# Altium footprint library con-wf.PcbLib: 46 footprints (part 3 of 3)
Each footprint in its own frame and in the unit in brackets; x right, y up, seen from the top. Pads: shape width x height; smd on the part's side, far side on the other; paste and mask are expansions set on the pad; w line width, h text height; cw(c..) or ccw(c..) is an arc to the next point about the centre after c.
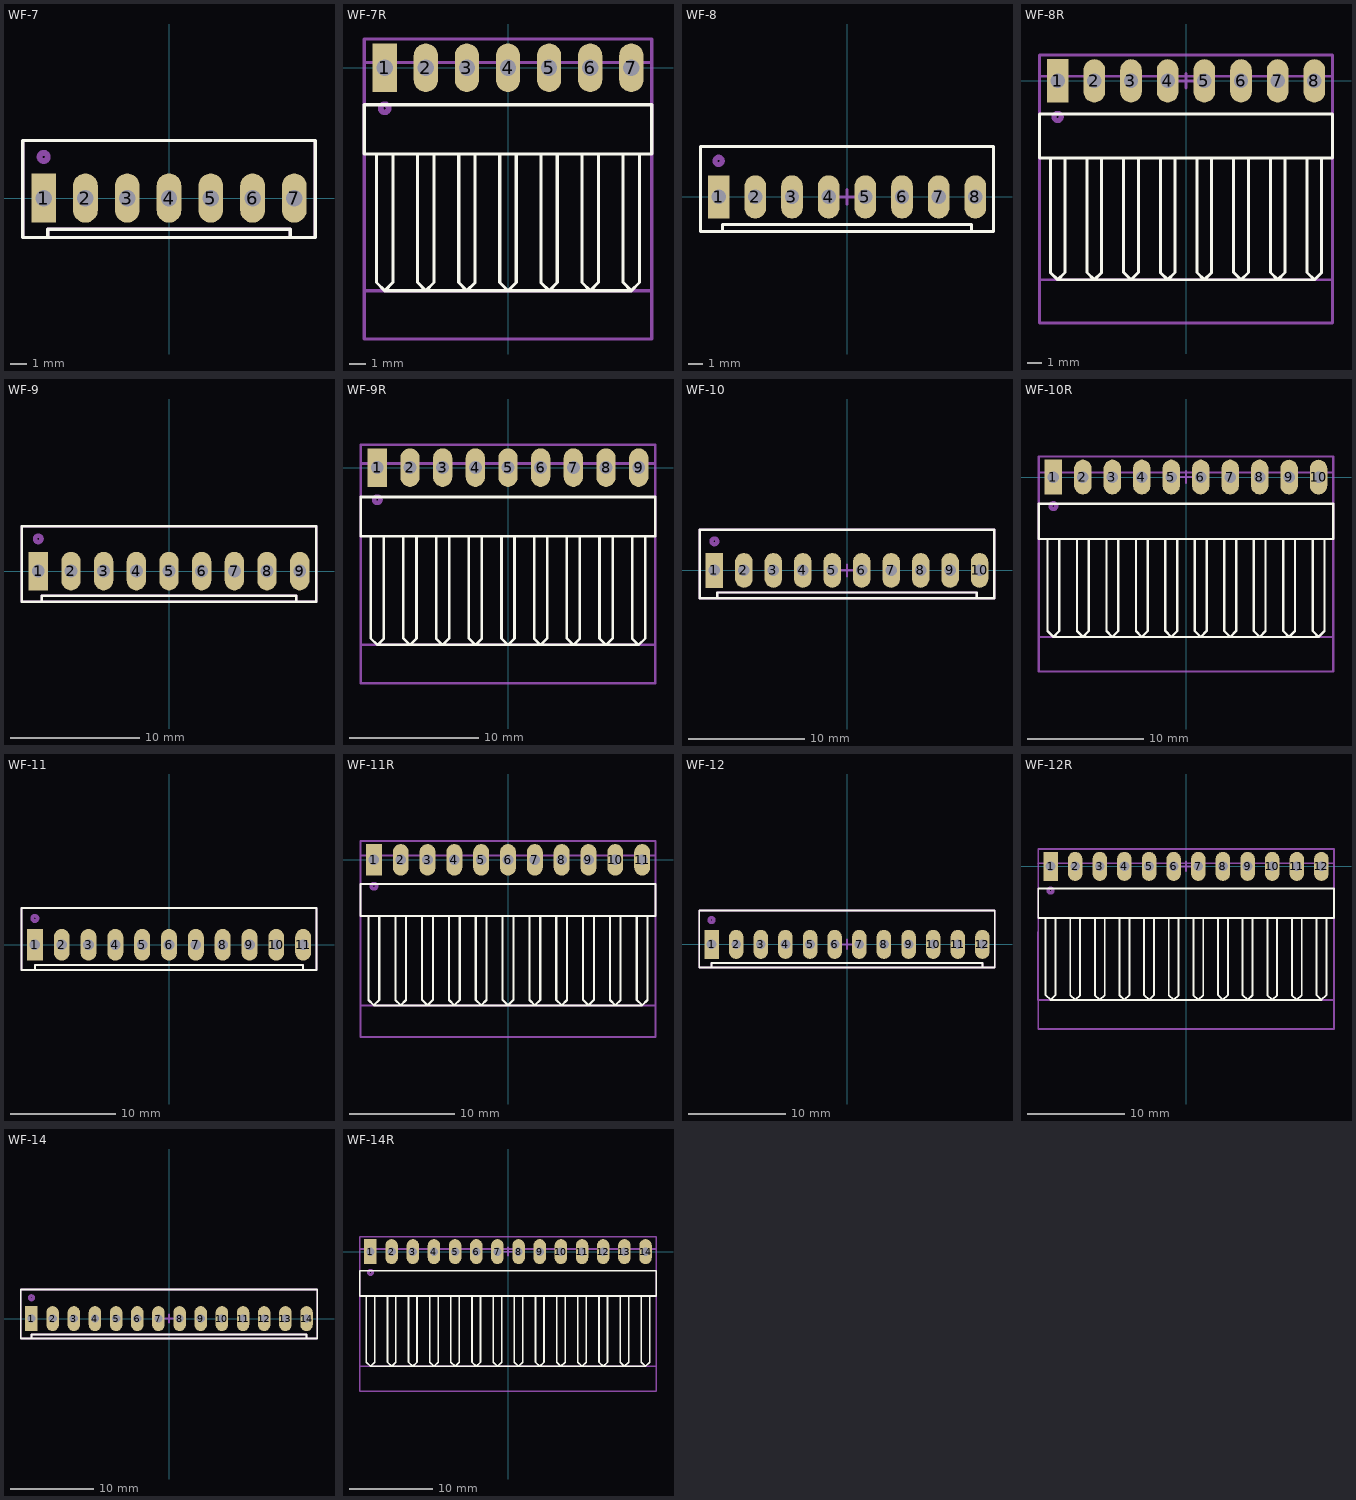
[diagram p2: the footprints below, top view; thin cyan lines are the x and y axes]

## WF-7 [mm] "DS1070-7MV CONNFLY"
height 11.6
pads (7):
  rect 1.5x3 hole 1: 1(-7.62,0)
  oval 1.5x3 hole 1: 2(-5.08,0) 3(-2.54,0) 4(0,0) 5(2.54,0) 6(5.08,0) 7(7.62,0)
Top Overlay:
  lines w0.2: -7.366,-2.4 -7.366,-1.905 7.366,-1.905 7.366,-2.4 ; -8.89,-2.4 8.89,-2.4 8.89,3.5 -8.89,3.5 -8.89,-2.4
Top Assembly (Mech3):
  circle w0.35: c-7.62,2.5 r0.25
  rectangle: -8.15,-0.5 -7.119,0.5
  rectangle: -5.61,-0.5 -4.579,0.5
  rectangle: -3.07,-0.5 -2.039,0.5
  rectangle: -0.53,-0.5 0.501,0.5
  rectangle: 2.01,-0.5 3.041,0.5
  rectangle: 4.55,-0.5 5.581,0.5
  rectangle: 7.09,-0.5 8.121,0.5
  lines w0.2: -7.366,-2.4 -7.366,-1.905 7.366,-1.905 7.366,-2.4 ; -8.89,-2.4 8.89,-2.4 8.89,3.5 -8.89,3.5 -8.89,-2.4
Top Courtyard:
  lines w0.2: -0.508,0 0.508,0 ; 0,-0.508 0,0.508 ; -8.89,-2.4 -8.89,3.5 8.89,3.5 8.89,-2.4 -8.89,-2.4
3D body "DS1070-7 (WF-7 CONNFLY).stp": height 11.4, standoff -3.3, extent -8.89,-2.4 8.89,3.5

## WF-7R [mm] "DS1070-7MR CONNFLY"
height 5.8
pads (7):
  rect 1.5x3 hole 1: 1(-7.62,0)
  oval 1.5x3 hole 1: 2(-5.08,0) 3(-2.54,0) 4(0,0) 5(2.54,0) 6(5.08,0) 7(7.62,0)
Top Overlay:
  lines w0.2: -8.128,-5.334 -8.128,-13.272 -7.62,-13.78 ; -7.112,-5.334 -7.112,-13.272 -7.62,-13.78 ; -5.588,-5.334 -5.588,-13.272 -5.08,-13.78 ; -4.572,-5.334 -4.572,-13.272 -5.08,-13.78 ; -3.048,-5.334 -3.048,-13.272 -2.54,-13.78 ; -2.032,-5.334 -2.032,-13.272 -2.54,-13.78 ; -0.508,-5.334 -0.508,-13.272 0,-13.78 ; 0.508,-5.334 0.508,-13.272 0,-13.78 ; 2.032,-5.334 2.032,-13.272 2.54,-13.78 ; 3.048,-5.334 3.048,-13.272 2.54,-13.78 ; 4.572,-5.334 4.572,-13.272 5.08,-13.78 ; 5.588,-5.334 5.588,-13.272 5.08,-13.78 ; 7.112,-5.334 7.112,-13.272 7.62,-13.78 ; 8.128,-5.334 8.128,-13.272 7.62,-13.78 ; -7.62,-13.78 -5.08,-13.78 ; -5.08,-13.78 -2.54,-13.78 ; -2.54,-13.78 0,-13.78 ; 0,-13.78 2.54,-13.78 ; 2.54,-13.78 5.08,-13.78 ; 5.08,-13.78 7.62,-13.78 ; -8.89,-5.334 -8.89,-2.286 8.89,-2.286 8.89,-5.334 -8.89,-5.334
Top Assembly (Mech3):
  circle w0.35: c-7.62,-2.5 r0.25
  lines w0.2: -8.89,-13.78 8.89,-13.78 8.89,0.32 -8.89,0.32 -8.89,-13.78
Top Courtyard:
  lines w0.2: -0.508,0 0.508,0 ; 0,-0.508 0,0.508 ; -8.89,-16.764 -8.89,1.778 8.89,1.778 8.89,-16.764 -8.89,-16.764
3D body "DS1070-7MR (WF-7RA CONNFLY).stp": height 5.9, standoff -3.4, extent -8.89,-13.78 8.89,0.32

## WF-8 [mm] "DS1070-8MV CONNFLY"
height 11.6
pads (8):
  rect 1.5x3 hole 1: 1(-8.89,0)
  oval 1.5x3 hole 1: 2(-6.35,0) 3(-3.81,0) 4(-1.27,0) 5(1.27,0) 6(3.81,0) 7(6.35,0) 8(8.89,0)
Top Overlay:
  lines w0.2: -8.636,-2.4 -8.636,-1.905 8.636,-1.905 8.636,-2.4 ; -10.16,-2.4 10.16,-2.4 10.16,3.5 -10.16,3.5 -10.16,-2.4
Top Assembly (Mech3):
  circle w0.35: c-8.89,2.5 r0.25
  rectangle: -9.42,-0.5 -8.389,0.5
  rectangle: -6.88,-0.5 -5.849,0.5
  rectangle: -4.34,-0.5 -3.309,0.5
  rectangle: -1.8,-0.5 -0.769,0.5
  rectangle: 0.74,-0.5 1.771,0.5
  rectangle: 3.28,-0.5 4.311,0.5
  rectangle: 5.82,-0.5 6.851,0.5
  rectangle: 8.36,-0.5 9.391,0.5
  lines w0.2: -8.636,-2.4 -8.636,-1.905 8.636,-1.905 8.636,-2.4 ; -10.16,-2.4 10.16,-2.4 10.16,3.5 -10.16,3.5 -10.16,-2.4
Top Courtyard:
  lines w0.2: -0.508,0 0.508,0 ; 0,-0.508 0,0.508 ; -10.16,-2.4 -10.16,3.5 10.16,3.5 10.16,-2.4 -10.16,-2.4
3D body "DS1070-8 (WF-8 CONNFLY).stp": height 11.4, standoff -3.3, extent -10.16,-2.4 10.16,3.5

## WF-8R [mm] "DS1070-8MR CONNFLY"
height 5.8
pads (8):
  rect 1.5x3 hole 1: 1(-8.89,0)
  oval 1.5x3 hole 1: 2(-6.35,0) 3(-3.81,0) 4(-1.27,0) 5(1.27,0) 6(3.81,0) 7(6.35,0) 8(8.889,-0.001)
Top Overlay:
  lines w0.2: -9.398,-5.334 -9.398,-13.272 -8.89,-13.78 ; -8.382,-5.334 -8.382,-13.272 -8.89,-13.78 ; -6.858,-5.334 -6.858,-13.272 -6.35,-13.78 ; -5.842,-5.334 -5.842,-13.272 -6.35,-13.78 ; -4.318,-5.334 -4.318,-13.272 -3.81,-13.78 ; -3.302,-5.334 -3.302,-13.272 -3.81,-13.78 ; -1.778,-5.334 -1.778,-13.272 -1.27,-13.78 ; -0.762,-5.334 -0.762,-13.272 -1.27,-13.78 ; 0.762,-5.334 0.762,-13.272 1.27,-13.78 ; 1.778,-5.334 1.778,-13.272 1.27,-13.78 ; 3.302,-5.334 3.302,-13.272 3.81,-13.78 ; 4.318,-5.334 4.318,-13.272 3.81,-13.78 ; 5.842,-5.334 5.842,-13.272 6.35,-13.78 ; 6.858,-5.334 6.858,-13.272 6.35,-13.78 ; 8.382,-5.334 8.382,-13.272 8.89,-13.78 ; 9.398,-5.334 9.398,-13.272 8.89,-13.78 ; -8.89,-13.78 -6.35,-13.78 ; -6.35,-13.78 -3.81,-13.78 ; -3.81,-13.78 -1.27,-13.78 ; -1.27,-13.78 1.27,-13.78 ; 1.27,-13.78 3.81,-13.78 ; 3.81,-13.78 6.35,-13.78 ; 6.35,-13.78 8.89,-13.78 ; -10.16,-5.334 10.16,-5.334 10.16,-2.286 -10.16,-2.286 -10.16,-5.334
Top Assembly (Mech3):
  circle w0.35: c-8.89,-2.501 r0.25
  lines w0.2: -10.161,0.319 10.159,0.319 10.159,-13.781 -10.161,-13.781 -10.16,0.319
Top Courtyard:
  lines w0.2: -0.508,0 0.508,0 ; 0,-0.508 0,0.508 ; -10.16,-16.764 10.16,-16.764 10.16,1.778 -10.16,1.778 -10.16,-16.764
3D body "DS1070-8MR (WF-8RA CONNFLY).stp": height 5.9, standoff -3.4, extent -10.161,-13.781 10.159,0.319

## WF-9 [mm] "DS1070-9MV CONNFLY"
height 11.6
pads (9):
  rect 1.5x3 hole 1: 1(-10.16,0)
  oval 1.5x3 hole 1: 2(-7.62,0) 3(-5.08,0) 4(-2.54,0) 5(0,0) 6(2.54,0) 7(5.08,0) 8(7.62,0) 9(10.16,0)
Top Overlay:
  lines w0.2: -9.906,-2.4 -9.906,-1.905 9.906,-1.905 9.906,-2.4 ; -11.43,-2.4 -11.43,3.5 11.43,3.5 11.43,-2.4 -11.43,-2.4
Top Assembly (Mech3):
  circle w0.35: c-10.16,2.5 r0.25
  rectangle: -10.69,-0.5 -9.659,0.5
  rectangle: -8.15,-0.5 -7.119,0.5
  rectangle: -5.61,-0.5 -4.579,0.5
  rectangle: -3.07,-0.5 -2.039,0.5
  rectangle: -0.53,-0.5 0.501,0.5
  rectangle: 2.01,-0.5 3.041,0.5
  rectangle: 4.55,-0.5 5.581,0.5
  rectangle: 7.09,-0.5 8.121,0.5
  rectangle: 9.63,-0.5 10.661,0.5
  lines w0.2: -9.906,-2.4 -9.906,-1.905 9.906,-1.905 9.906,-2.4 ; -11.43,-2.4 11.43,-2.4 11.43,3.5 -11.43,3.5 -11.43,-2.4
Top Courtyard:
  lines w0.2: -0.508,0 0.508,0 ; 0,-0.508 0,0.508 ; -11.43,-2.4 11.43,-2.4 11.43,3.5 -11.43,3.5 -11.43,-2.4
3D body "DS1070-9 (WF-9 CONNFLY).stp": height 11.4, standoff -3.3, extent -11.43,-2.4 11.43,3.5

## WF-9R [mm] "DS1070-9MR CONNFLY"
height 5.8
pads (9):
  rect 1.5x3 hole 1: 1(-10.16,0)
  oval 1.5x3 hole 1: 2(-7.62,0) 3(-5.08,0) 4(-2.54,0) 5(0,0) 6(2.54,0) 7(5.08,0) 8(7.62,0) 9(10.16,0)
Top Overlay:
  lines w0.2: -10.668,-5.334 -10.668,-13.272 -10.16,-13.78 ; -9.652,-5.334 -9.652,-13.272 -10.16,-13.78 ; -8.128,-5.334 -8.128,-13.272 -7.62,-13.78 ; -7.112,-5.334 -7.112,-13.272 -7.62,-13.78 ; -5.588,-5.334 -5.588,-13.272 -5.08,-13.78 ; -4.572,-5.334 -4.572,-13.272 -5.08,-13.78 ; -3.048,-5.334 -3.048,-13.272 -2.54,-13.78 ; -2.032,-5.334 -2.032,-13.272 -2.54,-13.78 ; -0.508,-5.334 -0.508,-13.272 0,-13.78 ; 0.508,-5.334 0.508,-13.272 0,-13.78 ; 2.032,-5.334 2.032,-13.272 2.54,-13.78 ; 3.048,-5.334 3.048,-13.272 2.54,-13.78 ; 4.572,-5.334 4.572,-13.272 5.08,-13.78 ; 5.588,-5.334 5.588,-13.272 5.08,-13.78 ; 7.112,-5.334 7.112,-13.272 7.62,-13.78 ; 8.128,-5.334 8.128,-13.272 7.62,-13.78 ; 9.652,-5.334 9.652,-13.272 10.16,-13.78 ; 10.668,-5.334 10.668,-13.272 10.16,-13.78 ; -10.16,-13.78 -7.62,-13.78 ; -7.62,-13.78 -5.08,-13.78 ; -5.08,-13.78 -2.54,-13.78 ; -2.54,-13.78 0,-13.78 ; 0,-13.78 2.54,-13.78 ; 2.54,-13.78 5.08,-13.78 ; 5.08,-13.78 7.62,-13.78 ; 7.62,-13.78 10.16,-13.78 ; -11.43,-5.334 -11.43,-2.286 11.43,-2.286 11.43,-5.334 -11.43,-5.334
Top Assembly (Mech3):
  circle w0.35: c-10.16,-2.5 r0.25
  lines w0.2: -11.43,-13.78 11.43,-13.78 11.43,0.32 -11.43,0.32 -11.43,-13.78
Top Courtyard:
  lines w0.2: -0.508,0 0.508,0 ; 0,-0.508 0,0.508 ; -11.43,-16.764 -11.43,1.778 11.43,1.778 11.43,-16.764 -11.43,-16.764
3D body "DS1070-9MR (WF-9RA CONNFLY).stp": height 5.9, standoff -3.4, extent -11.43,-13.78 11.43,0.32

## WF-10 [mm] "DS1070-10MV CONNFLY"
height 11.6
pads (10):
  rect 1.5x3 hole 1: 1(-11.43,0)
  oval 1.5x3 hole 1: 2(-8.89,0) 3(-6.35,0) 4(-3.81,0) 5(-1.27,0) 6(1.27,0) 7(3.81,0) 8(6.35,0) 9(8.89,0) 10(11.43,0)
Top Overlay:
  lines w0.2: -11.19,-1.905 -6.364,-1.905 11.176,-1.905 11.176,-2.4 ; -11.176,-2.4 -11.176,-1.905 ; -12.7,-2.4 -12.7,3.5 12.7,3.5 12.7,-2.4 -12.7,-2.4
Top Assembly (Mech3):
  circle w0.35: c-11.43,2.5 r0.25
  rectangle: 10.9,-0.5 11.931,0.5
  rectangle: 8.36,-0.5 9.391,0.5
  rectangle: 5.82,-0.5 6.851,0.5
  rectangle: 3.28,-0.5 4.311,0.5
  rectangle: 0.74,-0.5 1.771,0.5
  rectangle: -1.8,-0.5 -0.769,0.5
  rectangle: -4.34,-0.5 -3.309,0.5
  rectangle: -6.88,-0.5 -5.849,0.5
  rectangle: -9.42,-0.5 -8.389,0.5
  rectangle: -11.96,-0.5 -10.929,0.5
  lines w0.2: -11.176,-2.4 -11.176,-1.905 11.176,-1.905 11.176,-2.4 ; -12.7,-2.4 12.7,-2.4 12.7,3.5 -12.7,3.5 -12.7,-2.4
Top Courtyard:
  lines w0.2: -0.508,0 0.508,0 ; 0,-0.508 0,0.508 ; -12.7,-2.4 12.7,-2.4 12.7,3.5 -12.7,3.5 -12.7,-2.4
3D body "DS1070-10 (WF-10 CONNFLY).stp": height 11.4, standoff -3.3, extent -12.7,-2.4 12.7,3.5

## WF-10R [mm] "DS1070-10MR CONNFLY"
height 5.8
pads (10):
  rect 1.5x3 hole 1: 1(-11.43,0)
  oval 1.5x3 hole 1: 2(-8.89,0) 3(-6.35,0) 4(-3.81,0) 5(-1.27,0) 6(1.27,0) 7(3.81,0) 8(6.349,-0.001) 9(8.889,-0.001) 10(11.429,-0.001)
Top Overlay:
  lines w0.2: -11.938,-5.334 -11.938,-13.272 -11.43,-13.78 ; -10.922,-5.334 -10.922,-13.272 -11.43,-13.78 ; -9.398,-5.334 -9.398,-13.272 -8.89,-13.78 ; -8.382,-5.334 -8.382,-13.272 -8.89,-13.78 ; -6.858,-5.334 -6.858,-13.272 -6.35,-13.78 ; -5.842,-5.334 -5.842,-13.272 -6.35,-13.78 ; -4.318,-5.334 -4.318,-13.272 -3.81,-13.78 ; -3.302,-5.334 -3.302,-13.272 -3.81,-13.78 ; -1.778,-5.334 -1.778,-13.272 -1.27,-13.78 ; -0.762,-5.334 -0.762,-13.272 -1.27,-13.78 ; 0.762,-5.334 0.762,-13.272 1.27,-13.78 ; 1.778,-5.334 1.778,-13.272 1.27,-13.78 ; 3.302,-5.334 3.302,-13.272 3.81,-13.78 ; 4.318,-5.334 4.318,-13.272 3.81,-13.78 ; 5.842,-5.334 5.842,-13.272 6.35,-13.78 ; 6.858,-5.334 6.858,-13.272 6.35,-13.78 ; 8.382,-5.334 8.382,-13.272 8.89,-13.78 ; 9.398,-5.334 9.398,-13.272 8.89,-13.78 ; 10.922,-5.334 10.922,-13.272 11.43,-13.78 ; 11.938,-5.334 11.938,-13.272 11.43,-13.78 ; -11.43,-13.78 -8.89,-13.78 ; -8.89,-13.78 -6.35,-13.78 ; -6.35,-13.78 -3.81,-13.78 ; -3.81,-13.78 -1.27,-13.78 ; -1.27,-13.78 1.27,-13.78 ; 1.27,-13.78 3.81,-13.78 ; 3.81,-13.78 6.35,-13.78 ; 6.35,-13.78 8.89,-13.78 ; 8.89,-13.78 11.43,-13.78 ; -12.7,-5.334 12.7,-5.334 12.7,-2.286 -12.7,-2.286 -12.7,-5.334
Top Assembly (Mech3):
  circle w0.35: c-11.43,-2.5 r0.25
  lines w0.2: -12.701,-13.781 -12.7,0.4 12.7,0.4 12.699,-13.781 -12.701,-13.781
Top Courtyard:
  lines w0.2: -0.508,0 0.508,0 ; 0,-0.508 0,0.508 ; -12.7,-16.764 12.7,-16.764 12.7,1.778 -12.7,1.778 -12.7,-16.764
3D body "DS1070-10MR (WF-10RA CONNFLY).stp": height 5.9, standoff -3.4, extent -12.701,-13.781 12.699,0.319

## WF-11 [mm] "DS1070-11MV CONNFLY"
height 11.6
pads (11):
  rect 1.5x3 hole 1: 1(-12.7,0)
  oval 1.5x3 hole 1: 2(-10.16,0) 3(-7.62,0) 4(-5.08,0) 5(-2.54,0) 6(0,0) 7(2.54,0) 8(5.08,0) 9(7.62,0) 10(10.16,0) 11(12.7,0)
Top Overlay:
  lines w0.2: -12.701,-2.4 -12.7,-1.905 -7.545,-1.905 12.7,-1.905 12.7,-2.4 ; -13.97,-2.4 13.97,-2.4 13.97,3.5 -13.97,3.5 -13.97,-2.4
Top Assembly (Mech3):
  circle w0.35: c-12.7,2.5 r0.25
  rectangle: 12.17,-0.5 13.201,0.5
  rectangle: 9.63,-0.5 10.661,0.5
  rectangle: 7.09,-0.5 8.121,0.5
  rectangle: 4.55,-0.5 5.581,0.5
  rectangle: 2.01,-0.5 3.041,0.5
  rectangle: -0.53,-0.5 0.501,0.5
  rectangle: -3.07,-0.5 -2.039,0.5
  rectangle: -5.61,-0.5 -4.579,0.5
  rectangle: -8.15,-0.5 -7.119,0.5
  rectangle: -10.69,-0.5 -9.659,0.5
  rectangle: -13.23,-0.5 -12.199,0.5
  lines w0.2: -12.701,-2.4 -12.7,-1.905 12.7,-1.905 12.7,-2.4 ; -13.97,-2.4 13.97,-2.4 13.97,3.5 -13.97,3.5 -13.97,-2.4
Top Courtyard:
  lines w0.2: -0.508,0 0.508,0 ; 0,-0.508 0,0.508 ; -13.97,-2.4 -13.97,3.5 13.97,3.5 13.97,-2.4 -13.97,-2.4
3D body "DS1070-11 (WF-11 CONNFLY).stp": height 11.4, standoff -3.3, extent -13.97,-2.4 13.97,3.5

## WF-11R [mm] "DS1070-11MR CONNFLY"
height 5.8
pads (11):
  rect 1.5x3 hole 1: 1(-12.7,0)
  oval 1.5x3 hole 1: 2(-10.16,0) 3(-7.62,0) 4(-5.08,0) 5(-2.54,0) 6(0,0) 7(2.54,0) 8(5.08,0) 9(7.62,0) 10(10.16,0) 11(12.7,0)
Top Overlay:
  lines w0.2: -13.208,-5.334 -13.208,-13.272 -12.7,-13.78 ; -12.192,-5.334 -12.192,-13.272 -12.7,-13.78 ; -10.668,-5.334 -10.668,-13.272 -10.16,-13.78 ; -9.652,-5.334 -9.652,-13.272 -10.16,-13.78 ; -8.128,-5.334 -8.128,-13.272 -7.62,-13.78 ; -7.112,-5.334 -7.112,-13.272 -7.62,-13.78 ; -5.588,-5.334 -5.588,-13.272 -5.08,-13.78 ; -4.572,-5.334 -4.572,-13.272 -5.08,-13.78 ; -3.048,-5.334 -3.048,-13.272 -2.54,-13.78 ; -2.032,-5.334 -2.032,-13.272 -2.54,-13.78 ; -0.508,-5.334 -0.508,-13.272 0,-13.78 ; 0.508,-5.334 0.508,-13.272 0,-13.78 ; 2.032,-5.334 2.032,-13.272 2.54,-13.78 ; 3.048,-5.334 3.048,-13.272 2.54,-13.78 ; 4.572,-5.334 4.572,-13.272 5.08,-13.78 ; 5.588,-5.334 5.588,-13.272 5.08,-13.78 ; 7.112,-5.334 7.112,-13.272 7.62,-13.78 ; 8.128,-5.334 8.128,-13.272 7.62,-13.78 ; 9.652,-5.334 9.652,-13.272 10.16,-13.78 ; 10.668,-5.334 10.668,-13.272 10.16,-13.78 ; 12.192,-5.334 12.192,-13.272 12.7,-13.78 ; 13.208,-5.334 13.208,-13.272 12.7,-13.78 ; -12.7,-13.78 -10.16,-13.78 ; -10.16,-13.78 -7.62,-13.78 ; -7.62,-13.78 -5.08,-13.78 ; -5.08,-13.78 -2.54,-13.78 ; -2.54,-13.78 0,-13.78 ; 0,-13.78 2.54,-13.78 ; 2.54,-13.78 5.08,-13.78 ; 5.08,-13.78 7.62,-13.78 ; 7.62,-13.78 10.16,-13.78 ; 10.16,-13.78 12.7,-13.78 ; -13.97,-5.334 13.97,-5.334 13.97,-2.286 -13.97,-2.286 -13.97,-5.334
Top Assembly (Mech3):
  circle w0.35: c-12.7,-2.5 r0.25
  lines w0.2: -13.97,-13.78 13.97,-13.78 13.97,0.4 -13.97,0.4 -13.97,-13.78
Top Courtyard:
  lines w0.2: -0.508,0 0.508,0 ; 0,-0.508 0,0.508 ; -13.97,-16.764 13.97,-16.764 13.97,1.778 -13.97,1.778 -13.97,-16.764
3D body "DS1070-11MR (WF-11RA CONNFLY).stp": height 5.9, standoff -3.4, extent -13.97,-13.78 13.97,0.32

## WF-12 [mm] "DS1070-12MV CONNFLY"
height 11.6
pads (12):
  rect 1.5x3 hole 1: 1(-13.97,0)
  oval 1.5x3 hole 1: 2(-11.43,0) 3(-8.89,0) 4(-6.35,0) 5(-3.81,0) 6(-1.27,0) 7(1.27,0) 8(3.81,0) 9(6.35,0) 10(8.89,0) 11(11.43,0) 12(13.97,0)
Top Overlay:
  lines w0.2: -13.97,-2.4 -13.97,-1.905 ; -13.944,-1.905 -6.324,-1.905 13.97,-1.905 13.97,-2.4 ; -15.24,-2.4 -15.24,-1.397 -15.24,1.397 -15.24,3.5 15.24,3.5 15.24,-2.4 -15.24,-2.4
Top Assembly (Mech3):
  circle w0.35: c-13.97,2.5 r0.25
  rectangle: 13.44,-0.5 14.471,0.5
  rectangle: 10.9,-0.5 11.931,0.5
  rectangle: 8.36,-0.5 9.391,0.5
  rectangle: 5.82,-0.5 6.851,0.5
  rectangle: 3.28,-0.5 4.311,0.5
  rectangle: 0.74,-0.5 1.771,0.5
  rectangle: -1.8,-0.5 -0.769,0.5
  rectangle: -4.34,-0.5 -3.309,0.5
  rectangle: -6.88,-0.5 -5.849,0.5
  rectangle: -9.42,-0.5 -8.389,0.5
  rectangle: -11.96,-0.5 -10.929,0.5
  rectangle: -14.474,-0.5 -13.443,0.5
  lines w0.2: -13.97,-2.4 -13.97,-1.905 13.97,-1.905 13.97,-2.4 ; -15.24,-2.4 15.24,-2.4 15.24,3.5 -15.24,3.5 -15.24,-2.4
Top Courtyard:
  lines w0.2: -0.508,0 0.508,0 ; 0,-0.508 0,0.508 ; -15.24,-2.4 -15.24,-2.4 ; -15.24,-2.4 -15.24,3.5 15.24,3.5 15.24,-2.4 -15.24,-2.4
3D body "DS1070-12 (WF-12 CONNFLY).stp": height 11.4, standoff -3.3, extent -15.24,-2.4 15.24,3.5

## WF-12R [mm] "DS1070-12MR CONNFLY"
height 5.8
pads (12):
  rect 1.5x3 hole 1: 1(-13.97,0)
  oval 1.5x3 hole 1: 2(-11.43,0) 3(-8.89,0) 4(-6.35,0) 5(-3.81,0) 6(-1.27,0) 7(1.27,0) 8(3.809,-0.001) 9(6.349,-0.001) 10(8.889,-0.001) 11(11.429,-0.001) 12(13.969,-0.001)
Top Overlay:
  lines w0.2: -14.478,-5.334 -14.478,-13.272 -13.97,-13.78 ; -13.462,-5.334 -13.462,-13.272 -13.97,-13.78 ; -11.938,-5.334 -11.938,-13.272 -11.43,-13.78 ; -10.922,-5.334 -10.922,-13.272 -11.43,-13.78 ; -9.398,-5.334 -9.398,-13.272 -8.89,-13.78 ; -8.382,-5.334 -8.382,-13.272 -8.89,-13.78 ; -6.858,-5.334 -6.858,-13.272 -6.35,-13.78 ; -5.842,-5.334 -5.842,-13.272 -6.35,-13.78 ; -4.318,-5.334 -4.318,-13.272 -3.81,-13.78 ; -3.302,-5.334 -3.302,-13.272 -3.81,-13.78 ; -1.778,-5.334 -1.778,-13.272 -1.27,-13.78 ; -0.762,-5.334 -0.762,-13.272 -1.27,-13.78 ; 0.762,-5.334 0.762,-13.272 1.27,-13.78 ; 1.778,-5.334 1.778,-13.272 1.27,-13.78 ; 3.302,-5.334 3.302,-13.272 3.81,-13.78 ; 4.318,-5.334 4.318,-13.272 3.81,-13.78 ; 5.842,-5.334 5.842,-13.272 6.35,-13.78 ; 6.858,-5.334 6.858,-13.272 6.35,-13.78 ; 8.382,-5.334 8.382,-13.272 8.89,-13.78 ; 9.398,-5.334 9.398,-13.272 8.89,-13.78 ; 10.922,-5.334 10.922,-13.272 11.43,-13.78 ; 11.938,-5.334 11.938,-13.272 11.43,-13.78 ; 13.462,-5.334 13.462,-13.272 13.97,-13.78 ; 14.478,-5.334 14.478,-13.272 13.97,-13.78 ; -13.97,-13.78 -11.43,-13.78 ; -11.43,-13.78 -8.89,-13.78 ; -8.89,-13.78 -6.35,-13.78 ; -6.35,-13.78 -3.81,-13.78 ; -3.81,-13.78 -1.27,-13.78 ; -1.27,-13.78 1.27,-13.78 ; 1.27,-13.78 3.81,-13.78 ; 3.81,-13.78 6.35,-13.78 ; 6.35,-13.78 8.89,-13.78 ; 8.89,-13.78 11.43,-13.78 ; 11.43,-13.78 13.97,-13.78 ; -15.24,-5.334 -15.24,-2.286 15.24,-2.286 15.24,-5.334 -15.24,-5.334
Top Assembly (Mech3):
  circle w0.35: c-13.97,-2.5 r0.25
  lines w0.2: -15.241,0.319 15.239,0.319 15.239,-13.781 -15.241,-13.781 -15.24,0.319
Top Courtyard:
  lines w0.2: -0.508,0 0.508,0 ; 0,-0.508 0,0.508 ; -15.24,-16.764 -15.24,1.778 15.24,1.778 15.24,-16.764 -15.24,-16.764
3D body "DS1070-12MR (WF-12RA CONNFLY).stp": height 5.9, standoff -3.4, extent -15.241,-13.781 15.239,0.319

## WF-14 [mm] "DS1070-14MV CONNFLY"
height 11.6
pads (14):
  rect 1.5x3 hole 1: 1(-16.51,0)
  oval 1.5x3 hole 1: 2(-13.97,0) 3(-11.43,0) 4(-8.89,0) 5(-6.35,0) 6(-3.81,0) 7(-1.27,0) 8(1.27,0) 9(3.81,0) 10(6.35,0) 11(8.89,0) 12(11.43,0) 13(13.97,0) 14(16.51,0)
Top Overlay:
  lines w0.2: -16.51,-2.4 -16.51,-1.905 16.51,-1.905 16.51,-2.4 ; -17.78,-2.4 17.78,-2.4 17.78,3.5 -17.78,3.5 -17.78,1.397 -17.78,-1.397 -17.78,-2.4
Top Assembly (Mech3):
  circle w0.35: c-16.51,2.5 r0.25
  rectangle: -17.04,-0.5 -16.009,0.5
  rectangle: -14.5,-0.5 -13.469,0.5
  rectangle: -11.96,-0.5 -10.929,0.5
  rectangle: -9.42,-0.5 -8.389,0.5
  rectangle: -6.88,-0.5 -5.849,0.5
  rectangle: -4.34,-0.5 -3.309,0.5
  rectangle: -1.8,-0.5 -0.769,0.5
  rectangle: 0.74,-0.5 1.771,0.5
  rectangle: 3.28,-0.5 4.311,0.5
  rectangle: 5.82,-0.5 6.851,0.5
  rectangle: 8.36,-0.5 9.391,0.5
  rectangle: 10.9,-0.5 11.931,0.5
  rectangle: 13.44,-0.5 14.471,0.5
  rectangle: 15.98,-0.5 17.011,0.5
  lines w0.2: -16.51,-2.4 -16.51,-1.905 16.51,-1.905 16.51,-2.4 ; -17.78,-2.4 -17.78,3.5 17.78,3.5 17.78,-2.4 -17.78,-2.4
Top Courtyard:
  lines w0.2: -0.508,0 0.508,0 ; 0,-0.508 0,0.508 ; -17.78,-2.4 17.78,-2.4 17.78,3.5 -17.78,3.5 -17.78,-2.4 ; -17.78,-2.4 -17.78,-2.4
3D body "DS1070-14 (WF-14 CONNFLY).stp": height 11.4, standoff -3.3, extent -17.78,-2.4 17.78,3.5

## WF-14R [mm] "DS1070-14MR CONNFLY"
height 5.8
pads (14):
  rect 1.5x3 hole 1: 1(-16.51,0)
  oval 1.5x3 hole 1: 2(-13.97,0) 3(-11.43,0) 4(-8.89,0) 5(-6.35,0) 6(-3.81,0) 7(-1.27,0) 8(1.269,-0.001) 9(3.809,-0.001) 10(6.349,-0.001) 11(8.889,-0.001) 12(11.429,-0.001) 13(13.969,-0.001) 14(16.508,-0.002)
Top Overlay:
  lines w0.2: -17.018,-5.334 -17.018,-13.272 -16.51,-13.78 ; -16.002,-5.334 -16.002,-13.272 -16.51,-13.78 ; -14.478,-5.334 -14.478,-13.272 -13.97,-13.78 ; -13.462,-5.334 -13.462,-13.272 -13.97,-13.78 ; -11.938,-5.334 -11.938,-13.272 -11.43,-13.78 ; -10.922,-5.334 -10.922,-13.272 -11.43,-13.78 ; -9.398,-5.334 -9.398,-13.272 -8.89,-13.78 ; -8.382,-5.334 -8.382,-13.272 -8.89,-13.78 ; -6.858,-5.334 -6.858,-13.272 -6.35,-13.78 ; -5.842,-5.334 -5.842,-13.272 -6.35,-13.78 ; -4.318,-5.334 -4.318,-13.272 -3.81,-13.78 ; -3.302,-5.334 -3.302,-13.272 -3.81,-13.78 ; -1.778,-5.334 -1.778,-13.272 -1.27,-13.78 ; -0.762,-5.334 -0.762,-13.272 -1.27,-13.78 ; 0.762,-5.334 0.762,-13.272 1.27,-13.78 ; 1.778,-5.334 1.778,-13.272 1.27,-13.78 ; 3.302,-5.334 3.302,-13.272 3.81,-13.78 ; 4.318,-5.334 4.318,-13.272 3.81,-13.78 ; 5.842,-5.334 5.842,-13.272 6.35,-13.78 ; 6.858,-5.334 6.858,-13.272 6.35,-13.78 ; 8.382,-5.334 8.382,-13.272 8.89,-13.78 ; 9.398,-5.334 9.398,-13.272 8.89,-13.78 ; 10.922,-5.334 10.922,-13.272 11.43,-13.78 ; 11.938,-5.334 11.938,-13.272 11.43,-13.78 ; 13.462,-5.334 13.462,-13.272 13.97,-13.78 ; 14.478,-5.334 14.478,-13.272 13.97,-13.78 ; 16.002,-5.334 16.002,-13.272 16.51,-13.78 ; 17.018,-5.334 17.018,-13.272 16.51,-13.78 ; -16.51,-13.78 -13.97,-13.78 ; -13.97,-13.78 -11.43,-13.78 ; -11.43,-13.78 -8.89,-13.78 ; -8.89,-13.78 -6.35,-13.78 ; -6.35,-13.78 -3.81,-13.78 ; -3.81,-13.78 -1.27,-13.78 ; -1.27,-13.78 1.27,-13.78 ; 1.27,-13.78 3.81,-13.78 ; 3.81,-13.78 6.35,-13.78 ; 6.35,-13.78 8.89,-13.78 ; 8.89,-13.78 11.43,-13.78 ; 11.43,-13.78 13.97,-13.78 ; 13.97,-13.78 16.51,-13.78 ; -17.78,-5.334 -17.78,-2.286 17.78,-2.286 17.78,-5.334 -17.78,-5.334
Top Assembly (Mech3):
  circle w0.35: c-16.51,-2.5 r0.25
  lines w0.2: -17.782,0.318 17.778,0.318 17.778,-13.782 -17.782,-13.782 -17.78,0.318
Top Courtyard:
  lines w0.2: -0.508,0 0.508,0 ; 0,-0.508 0,0.508 ; -17.78,-16.764 -17.78,1.778 17.78,1.778 17.78,-16.764 -17.78,-16.764
3D body "DS1070-14MR (WF-14RA CONNFLY).stp": height 5.9, standoff -3.4, extent -17.782,-13.782 17.778,0.318